# Altium schematic symbol library PSU.SchLib: 1 symbol
Pins are listed as number, name and electrical type; pins without a type are passive.

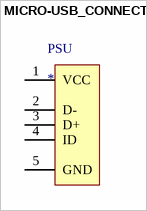
[diagram p0: symbol MICRO-USB_CONNECTOR]

## MICRO-USB_CONNECTOR
designator PSU
footprint MICRO-USB
pins: 1 VCC, 2 D-, 3 D+, 4 ID, 5 GND